# Altium schematic symbol library Conn_CNC_Tech_3220-10-0100-00_eec.SchLib: 1 symbol
Pins are listed as number, name and electrical type; pins without a type are passive.

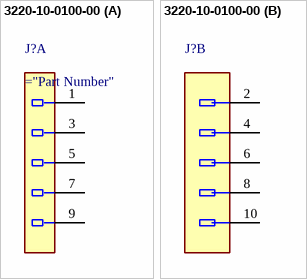
[diagram p0: symbol 3220-10-0100-00]

## 3220-10-0100-00
designator J?  (value not drawn)
part A pins: 1, 3, 5, 7, 9
part B pins: 2, 4, 6, 8, 10